# EAGLE library part TS02N (library joep-custom)
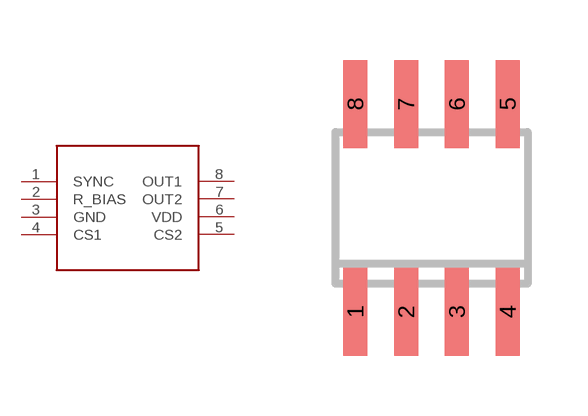
[diagram p0: symbol with the pads of SO8; footprint SO8]

Designator prefix -

## TS02N  [SO8]
1  SYNC
2  R_BIAS
3  GND
4  CS1
5  CS2
6  VDD
7  OUT2
8  OUT1

## Footprint SO8 (pad centres in mm)
smd 0.6 x 2.2: 1 -1.905,-2.6; 2 -0.635,-2.6; 3 0.635,-2.6; 4 1.905,-2.6; 5 1.905,2.6; 6 0.635,2.6; 7 -0.635,2.6; 8 -1.905,2.6